# Altium schematic symbol library SN74LVC2G32.SchLib: 1 symbol
Pins are listed as number, name and electrical type; pins without a type are passive.

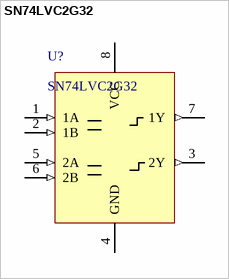
[diagram p0: symbol SN74LVC2G32]

## SN74LVC2G32
designator U?
pins: 1 1A (in), 2 1B (in), 3 2Y (out), 4 GND (power), 5 2A (in), 6 2B (in), 7 1Y (out), 8 VCC (power)